# EAGLE library part LTC6954 (library linear-technology)
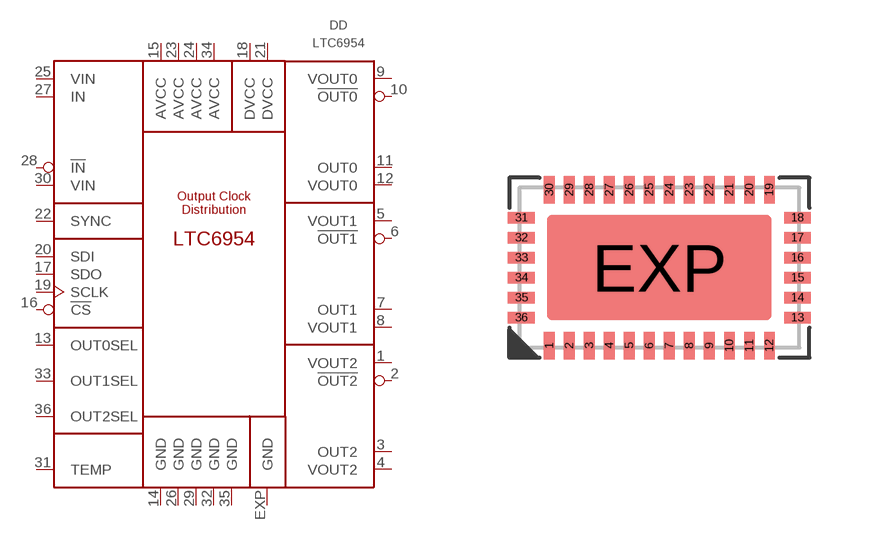
[diagram p3: symbol with the pads of 36-LQFN; footprint 36-LQFN]

Designator prefix DD

## LTC6954IUFF-1#PBF  [36-LQFN]
1  VOUT2  pwr
2  !OUT2  out
3  OUT2  out
4  VOUT2  pwr
5  VOUT1  pwr
6  !OUT1  out
7  OUT1  out
8  VOUT1  pwr
9  VOUT0  pwr
10  !OUT0  out
11  OUT0  out
12  VOUT0  pwr
13  OUT0SEL  out
14  GND  pwr
15  AVCC  pwr
16  !CS  in
17  SDO  out
18  DVCC  pwr
19  SCLK  in
20  SDI  in
21  DVCC  pwr
22  SYNC  in
23  AVCC  pwr
24  AVCC  pwr
25  VIN  pwr
26  GND  pwr
27  IN  in
28  !IN  in
29  GND  pwr
30  VIN  pwr
31  TEMP
32  GND  pwr
33  OUT1SEL  out
34  AVCC  pwr
35  GND  pwr
36  OUT2SEL  out
EXP  GND  pwr

## LTC6954IUFF-2#PBF  [36-LQFN]
Pads as for 36-LQFN

## LTC6954IUFF-3#PBF  [36-LQFN]
Pads as for 36-LQFN

## LTC6954IUFF-4#PBF  [36-LQFN]
Pads as for 36-LQFN

## Footprint 36-LQFN (pad centres in mm)
smd 0.3 x 0.7: 1 -2.75,-1.95; 2 -2.25,-1.95; 3 -1.75,-1.95; 4 -1.25,-1.95; 5 -0.75,-1.95; 6 -0.25,-1.95; 7 0.25,-1.95; 8 0.75,-1.95; 9 1.25,-1.95; 10 1.75,-1.95; 11 2.25,-1.95; 12 2.75,-1.95; 19 2.75,1.95; 20 2.25,1.95; 21 1.75,1.95; 22 1.25,1.95; 23 0.75,1.95; 24 0.25,1.95; 25 -0.25,1.95; 26 -0.75,1.95; 27 -1.25,1.95; 28 -1.75,1.95; 29 -2.25,1.95; 30 -2.75,1.95
smd 0.7 x 0.3: 13 3.45,-1.25; 14 3.45,-0.75; 15 3.45,-0.25; 16 3.45,0.25; 17 3.45,0.75; 18 3.45,1.25; 31 -3.45,1.25; 32 -3.45,0.75; 33 -3.45,0.25; 34 -3.45,-0.25; 35 -3.45,-0.75; 36 -3.45,-1.25
smd 5.61 x 2.64: EXP 0,0